# Altium schematic symbol library ADS1299IPAG.SchLib: 1 symbol
Pins are listed as number, name and electrical type; pins without a type are passive.

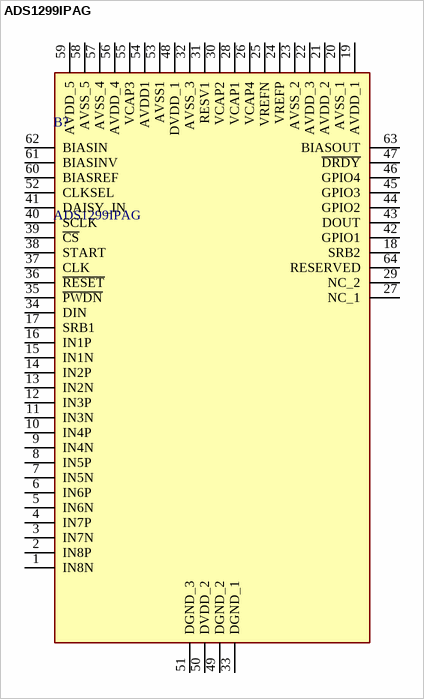
[diagram p0: symbol ADS1299IPAG]

## ADS1299IPAG
designator B?
Low-Noise, 8-Channel, 24-Bit Analog-to-Digital Converter for Biopotential Measurements; Manufacturer_Name: Texas Instruments; Geometry.Height: 1.2mm; Mouser Part Number: 595-ADS1299IPAG; Mouser Price/Stock: https://www.mouser.co.uk/ProductDetail/Texas-Instruments/ADS1299IPAG?qs=g9Q%2FF7kJgMyNB%2Fl7Pgr%252B%252BA%3D%3D; Manufacturer_Part_Number: ADS1299IPAG; Datasheet Link: http://www.ti.com/general/docs/lit/getliterature.tsp?genericPartNumber=ADS1299&&fileType=pdf
footprint QFP50P1200X1200X120-64N
pins: 1 IN8N, 2 IN8P, 3 IN7N, 4 IN7P, 5 IN6N, 6 IN6P, 7 IN5N, 8 IN5P, 9 IN4N, 10 IN4P, 11 IN3N, 12 IN3P, 13 IN2N, 14 IN2P, 15 IN1N, 16 IN1P, 17 SRB1, 18 SRB2, 19 AVDD_1, 20 AVSS_1, 21 AVDD_2, 22 AVDD_3, 23 AVSS_2, 24 VREFP, 25 VREFN, 26 VCAP4, 27 NC_1, 28 VCAP1, 29 NC_2, 30 VCAP2, 31 RESV1, 32 AVSS_3, 33 DGND_1, 34 DIN, 35 ~{PWDN}, 36 ~{RESET}, 37 CLK, 38 START, 39 ~{CS}, 40 SCLK, 41 DAISY_IN, 42 GPIO1, 43 DOUT, 44 GPIO2, 45 GPIO3, 46 GPIO4, 47 ~{DRDY}, 48 DVDD_1, 49 DGND_2, 50 DVDD_2, 51 DGND_3, 52 CLKSEL, 53 AVSS1, 54 AVDD1, 55 VCAP3, 56 AVDD_4, 57 AVSS_4, 58 AVSS_5, 59 AVDD_5, 60 BIASREF, 61 BIASINV, 62 BIASIN, 63 BIASOUT, 64 RESERVED